# EAGLE library part PIXELBLAZE-V3.4 (library PBv3)
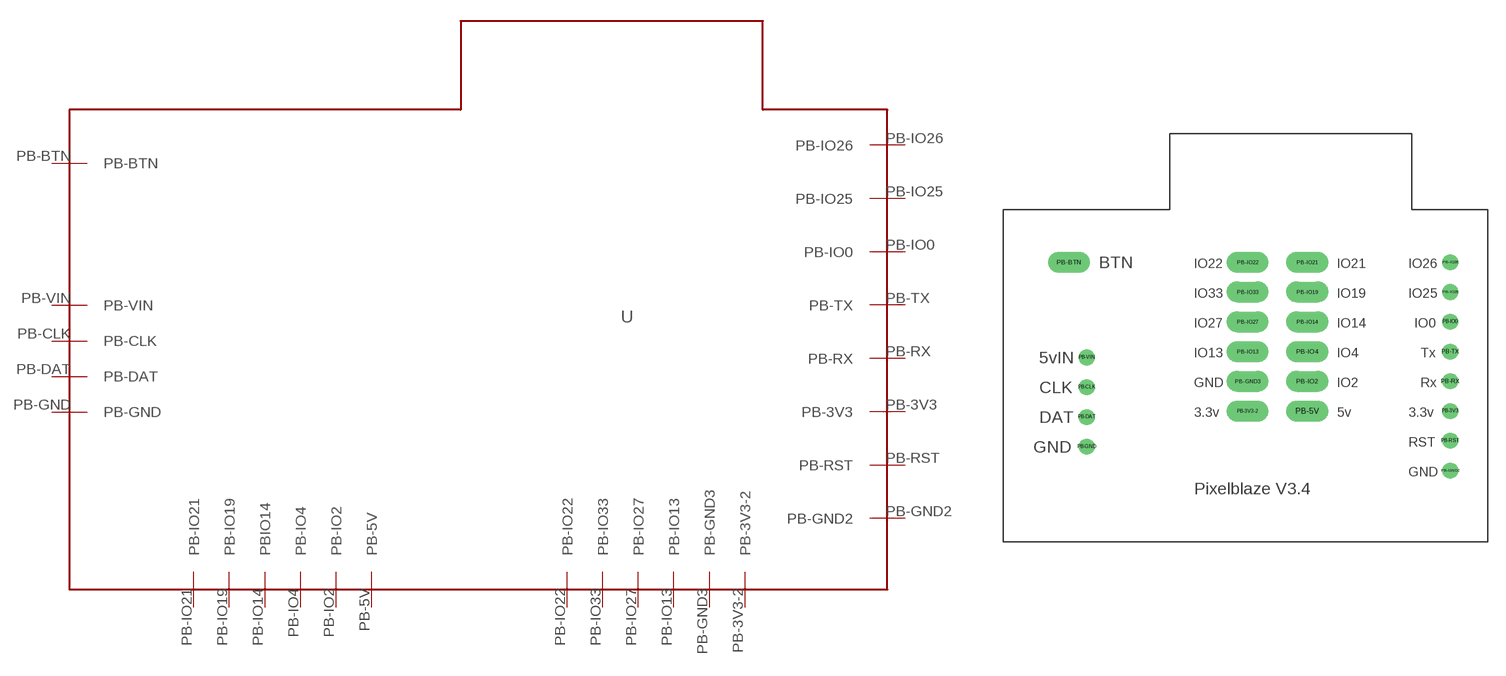
[diagram p0: symbol with the pads of PIXELBLAZE-V3; footprint PIXELBLAZE-V3]

Designator prefix -

## PIXELBLAZE-V3.4  [PIXELBLAZE-V3]
PB-3V3  PB-3V3
PB-3V3-2  PB-3V3-2
PB-5V  PB-5V
PB-BTN  PB-BTN
PB-CLK  PB-CLK
PB-DAT  PB-DAT
PB-GND  PB-GND
PB-GND2  PB-GND2
PB-GND3  PB-GND3
PB-IO0  PB-IO0
PB-IO2  PB-IO2
PB-IO4  PB-IO4
PB-IO13  PB-IO13
PB-IO14  PBIO14
PB-IO19  PB-IO19
PB-IO21  PB-IO21
PB-IO22  PB-IO22
PB-IO25  PB-IO25
PB-IO26  PB-IO26
PB-IO27  PB-IO27
PB-IO33  PB-IO33
PB-RST  PB-RST
PB-RX  PB-RX
PB-TX  PB-TX
PB-VIN  PB-VIN

## Footprint PIXELBLAZE-V3 (pad centres in mm)
Pixelblaxe v3, for integration into PCB
drill 0.8: PB-3V3 37.5,11; PB-CLK 7,13; PB-DAT 7,10.5; PB-GND 7,8; PB-GND2 37.5,6; PB-IO0 37.5,18.5; PB-IO25 37.5,21; PB-IO26 37.5,23.5; PB-RST 37.5,8.5; PB-RX 37.5,13.5; PB-TX 37.5,16; PB-VIN 7,15.5
drill 0.8 pad 1.778 long: PB-3V3-2 20.5,11; PB-5V 25.5,11; PB-BTN 5.5,23.5; PB-GND3 20.5,13.5; PB-IO2 25.5,13.5; PB-IO4 25.5,16; PB-IO13 20.5,16; PB-IO14 25.5,18.5; PB-IO19 25.5,21; PB-IO21 25.5,23.5; PB-IO22 20.5,23.5; PB-IO27 20.5,18.5; PB-IO33 20.5,21